# EAGLE library part L01-5VA (library trafo-alfamag)
TOROID TRANSFORMER
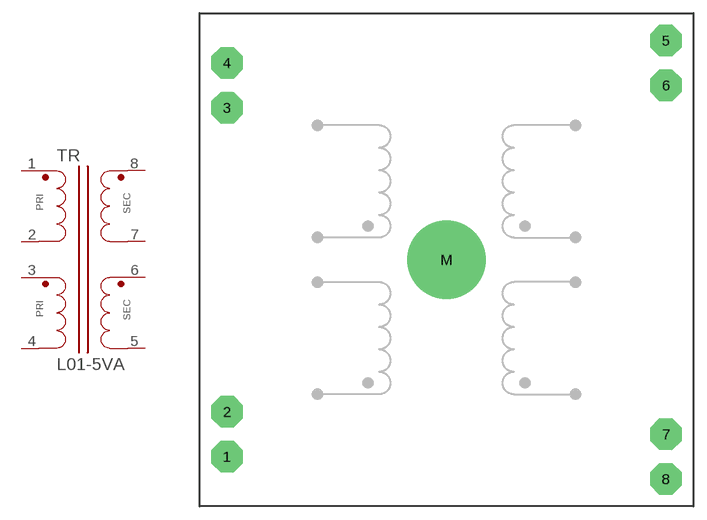
[diagram p6: symbol with the pads of L01-5VA; footprint L01-5VA]

Designator prefix TR

## L01-5VA  [L01-5VA]
1  1  pas
2  2  pas
3  3  pas
4  4  pas
5  5  pas
6  6  pas
7  7  pas
8  8  pas

## Footprint L01-5VA (pad centres in mm)
TOROID TRANSFORMER L x W x H = 49.7 x 49.7 x 23.1 mm X x Y = 45.72 x 45.72 mm
drill 1.422 pad 3.556 octagon: 1 -24.85,-22.31; 2 -24.85,-17.23; 3 -24.85,17.23; 4 -24.85,22.31; 5 24.85,24.85; 6 24.85,19.77; 7 24.85,-19.77; 8 24.85,-24.85
drill 4.699 pad 8.89: M 0,0